# Altium schematic symbol library SCH - CRYSTALS - ABRACON CRYSTAL ABS06.SCHLIB: 1 symbol
Pins are listed as number, name and electrical type; pins without a type are passive.

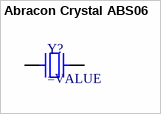
[diagram p0: symbol Abracon Crystal ABS06]

## Abracon Crystal ABS06
designator Y?
SMT Crystal
pins: 1, 2